# Altium footprint library PASSIVE_THD.PCBLIB: 248 footprints (part 7 of 16)
Each footprint in its own frame and in the unit in brackets; x right, y up, seen from the top. Pads: shape width x height; smd on the part's side, far side on the other; paste and mask are expansions set on the pad; w line width, h text height; cw(c..) or ccw(c..) is an arc to the next point about the centre after c.
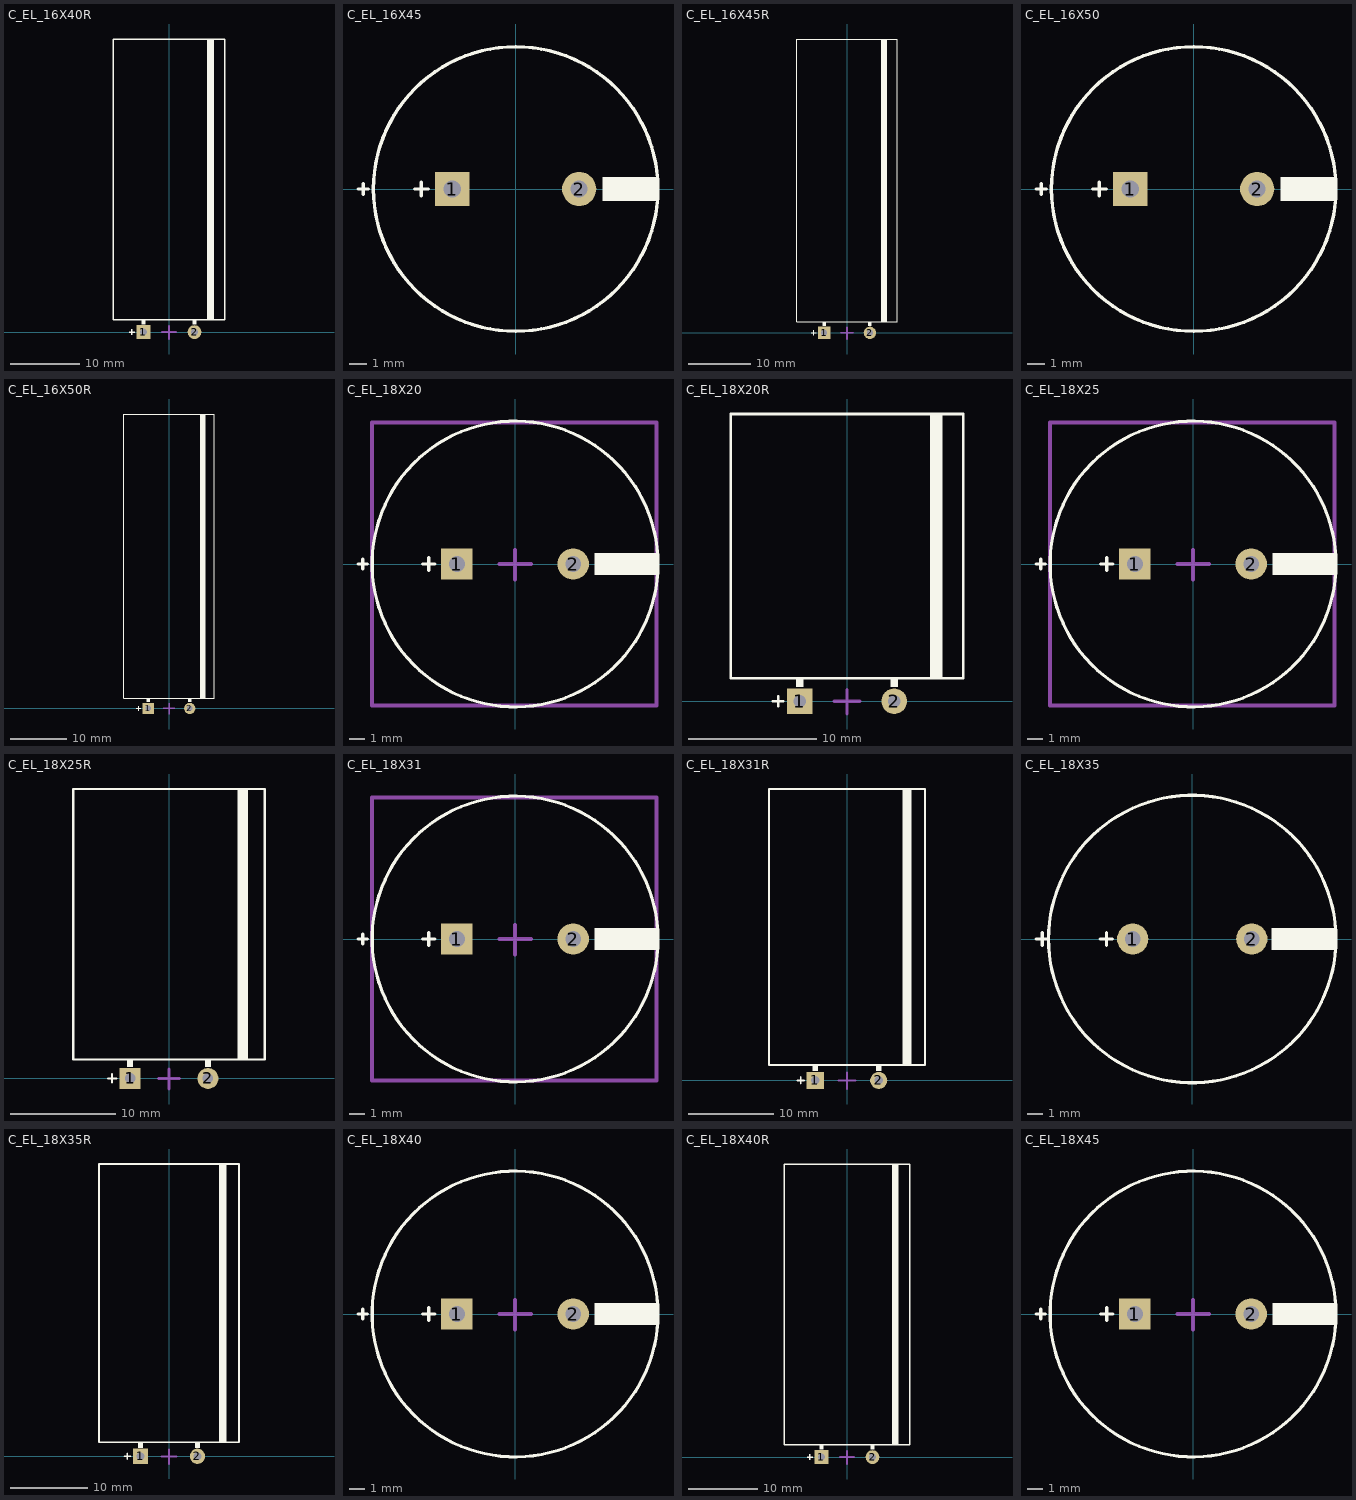
[diagram p6: the footprints below, top view; thin cyan lines are the x and y axes]

## C_EL_16X40R [mm] "Capacitor Electrolythic, D16X40H pitch: 7.4mm"
height 40
pads (2):
  rect 2x2 hole 1: 1(-3.7,0)
  round 2 hole 1: 2(3.7,0)
TopOverlay:
  rectangle: 5.5,1.8 6.5,42.5
  rectangle: -4,1.1 -3.4,1.8
  region: 4,1.8 3.4,1.8 3.4,1.1 4,1.1
  lines w0.2: -5.8,0 -5,0 ; -5.4,-0.4 -5.4,0.4 ; -8.1,1.8 8.1,1.8 8.1,42.5 -8.1,42.5 -8.1,1.8
Mechanical13:
  lines w0.254: -1,0 1,0 ; 0,-1 0,0.9
3D body "cap_el_horizontal_d16_h40_p7.5_w0.8.stp": height 16.08, standoff -3, extent -7.992,-0.4 7.999,42.41

## C_EL_16X45 [mm] "Capacitor Electrolythic, D16X45H pitch: 7.4mm"
height 26
pads (2):
  rect 2x2 hole 1: 1(-3.7,0)
  round 2 hole 1: 2(3.7,0)
TopOverlay:
  circle w0.2: c0,0 r8.3
  rectangle: 5.07,-0.7 8.3,0.7
  lines w0.2: -9.2,0 -8.6,0 ; -8.9,-0.3 -8.9,0.3 ; -5.9,0 -5.1,0 ; -5.5,-0.4 -5.5,0.4
3D body "cap_el_vertical_d16_h45_p7.5_w0.8.stp": height 45.01, standoff -3, extent -7.992,-7.999 7.999,7.999

## C_EL_16X45R [mm] "Capacitor Electrolythic, D16X45H pitch: 7.4mm"
height 40
pads (2):
  rect 2x2 hole 1: 1(-3.7,0)
  round 2 hole 1: 2(3.7,0)
TopOverlay:
  region: 4,1.8 3.4,1.8 3.4,1.1 4,1.1
  rectangle: -4,1.1 -3.4,1.8
  rectangle: 5.5,1.8 6.5,47.5
  lines w0.2: -5.8,0 -5,0 ; -5.4,-0.4 -5.4,0.4 ; -8.1,1.8 -8.1,47.5 8.1,47.5 8.1,1.8 -8.1,1.8
Mechanical13:
  lines w0.254: -1,0 1,0 ; 0,-1 0,0.9
3D body "cap_el_horizontal_d16_h45_p7.5_w0.8.stp": height 16.1, standoff -3, extent -7.992,-0.4 7.999,47.41

## C_EL_16X50 [mm] "Capacitor Electrolythic, D16X50H pitch: 7.4mm"
height 26
pads (2):
  rect 2x2 hole 1: 1(-3.7,0)
  round 2 hole 1: 2(3.7,0)
TopOverlay:
  circle w0.2: c0,0 r8.3
  rectangle: 5.07,-0.7 8.3,0.7
  lines w0.2: -9.2,0 -8.6,0 ; -8.9,-0.3 -8.9,0.3 ; -5.9,0 -5.1,0 ; -5.5,-0.4 -5.5,0.4
3D body "cap_el_vertical_d16_h50_p7.5_w0.8.stp": height 50.01, standoff -3, extent -7.99,-7.988 7.999,7.988

## C_EL_16X50R [mm] "Capacitor Electrolythic, D16X50H pitch: 7.4mm"
height 40
pads (2):
  rect 2x2 hole 1: 1(-3.7,0)
  round 2 hole 1: 2(3.7,0)
TopOverlay:
  rectangle: 5.5,1.8 6.5,52.5
  rectangle: -4,1.1 -3.4,1.8
  region: 4,1.8 3.4,1.8 3.4,1.1 4,1.1
  lines w0.2: -5.8,0 -5,0 ; -5.4,-0.4 -5.4,0.4 ; -8.1,1.8 8.1,1.8 8.1,52.5 -8.1,52.5 -8.1,1.8
Mechanical13:
  lines w0.254: -1,0 1,0 ; 0,-1 0,0.9
3D body "cap_el_horizontal_d16_h50_p7.5_w0.8.stp": height 16.09, standoff -3, extent -7.99,-0.4 7.999,52.41

## C_EL_18X20 [mm] "Capacitor Electrolythic, D18X20H pitch: 7.4mm"
height 36
pads (2):
  rect 2x2 hole 1: 1(-3.7,0)
  round 2 hole 1: 2(3.7,0)
TopOverlay:
  circle w0.2: c0,0 r9.1
  rectangle: 5.07,-0.7 9.1,0.7
  lines w0.2: -10,0 -9.4,0 ; -9.7,-0.3 -9.7,0.3 ; -5.9,0 -5.1,0 ; -5.5,-0.4 -5.5,0.4
Mechanical13:
  lines w0.254: -1,0 1,0 ; 0,-1 0,0.9 ; -9.1,-9 9,-9 9,9 -9.1,9 -9.1,-9
3D body "cap_el_vertical_d18_h20_p7.5_w0.8.stp": height 20.01, standoff -3, extent -8.99,-8.992 9.01,8.992

## C_EL_18X20R [mm] "Capacitor Electrolythic, D18X20H pitch: 7.4mm"
height 40
pads (2):
  rect 2x2 hole 1: 1(-3.7,0)
  round 2 hole 1: 2(3.7,0)
TopOverlay:
  region: 4,1.8 3.4,1.8 3.4,1.1 4,1.1
  rectangle: -4,1.1 -3.4,1.8
  rectangle: 6.5,1.8 7.5,22.5
  lines w0.2: -5.8,0 -5,0 ; -5.4,-0.4 -5.4,0.4 ; -9.1,1.8 -9.1,22.5 9.1,22.5 9.1,1.8 -9.1,1.8
Mechanical13:
  lines w0.254: -1,0 1,0 ; 0,-1 0,0.9
3D body "cap_el_horizontal_d18_h20_p7.5_w0.8.stp": height 18.09, standoff -3, extent -8.99,-0.4 9.01,22.41

## C_EL_18X25 [mm] "Capacitor Electrolythic, D18X25H pitch: 7.4mm"
height 36
pads (2):
  rect 2x2 hole 1: 1(-3.7,0)
  round 2 hole 1: 2(3.7,0)
TopOverlay:
  circle w0.2: c0,0 r9.1
  rectangle: 5.07,-0.7 9.1,0.7
  lines w0.2: -10,0 -9.4,0 ; -9.7,-0.3 -9.7,0.3 ; -5.9,0 -5.1,0 ; -5.5,-0.4 -5.5,0.4
Mechanical13:
  lines w0.254: -1,0 1,0 ; 0,-1 0,0.9 ; -9.1,-9 -9.1,9 9,9 9,-9 -9.1,-9
3D body "cap_el_vertical_d18_h25_p7.5_w0.8.stp": height 25.01, standoff -3, extent -8.991,-8.999 9.01,8.999

## C_EL_18X25R [mm] "Capacitor Electrolythic, D18X25H pitch: 7.4mm"
height 40
pads (2):
  rect 2x2 hole 1: 1(-3.7,0)
  round 2 hole 1: 2(3.7,0)
TopOverlay:
  rectangle: 6.5,1.8 7.5,27.5
  rectangle: -4,1.1 -3.4,1.8
  region: 4,1.8 3.4,1.8 3.4,1.1 4,1.1
  lines w0.2: -5.8,0 -5,0 ; -5.4,-0.4 -5.4,0.4 ; -9.1,1.8 9.1,1.8 9.1,27.5 -9.1,27.5 -9.1,1.8
Mechanical13:
  lines w0.254: -1,0 1,0 ; 0,-1 0,0.9
3D body "cap_el_horizontal_d18_h25_p7.5_w0.8.stp": height 18.1, standoff -3, extent -8.991,-0.4 9.01,27.41

## C_EL_18X31 [mm] "Capacitor Electrolythic, D18X31H pitch: 7.4mm"
height 36
pads (2):
  rect 2x2 hole 1: 1(-3.7,0)
  round 2 hole 1: 2(3.7,0)
TopOverlay:
  circle w0.2: c0,0 r9.1
  rectangle: 5.07,-0.7 9.1,0.7
  lines w0.2: -10,0 -9.4,0 ; -9.7,-0.3 -9.7,0.3 ; -5.9,0 -5.1,0 ; -5.5,-0.4 -5.5,0.4
Mechanical13:
  lines w0.254: -1,0 1,0 ; 0,-1 0,0.9 ; -9.1,-9 -9.1,9 9,9 9,-9 -9.1,-9
3D body "cap_el_vertical_d18_h31.5_p7.5_w0.8.stp": height 31.51, standoff -3, extent -9,-9 9.01,9

## C_EL_18X31R [mm] "Capacitor Electrolythic, D18X31H pitch: 7.4mm"
height 40
pads (2):
  rect 2x2 hole 1: 1(-3.7,0)
  round 2 hole 1: 2(3.7,0)
TopOverlay:
  region: 4,1.8 3.4,1.8 3.4,1.1 4,1.1
  rectangle: -4,1.1 -3.4,1.8
  rectangle: 6.5,1.8 7.5,34
  lines w0.2: -5.8,0 -5,0 ; -5.4,-0.4 -5.4,0.4 ; -9.1,1.8 -9.1,34 9.1,34 9.1,1.8 -9.1,1.8
Mechanical13:
  lines w0.254: -1,0 1,0 ; 0,-1 0,0.9
3D body "cap_el_horizontal_d18_h31.5_p7.5_w0.8.stp": height 18.1, standoff -3, extent -9,-0.4 9.01,33.91

## C_EL_18X35 [mm] "Cap Elec, D18.0X35.0H pitch: 7.6mm, RB.3/.7"
pads (2):
  round 2 hole 1: 1(-3.81,0) 2(3.81,0)
TopOverlay:
  circle w0.2: c0,0 r9.2
  rectangle: 5.07,-0.7 9.2,0.7
  lines w0.2: -10,0 -9.2,0 ; -9.6,-0.4 -9.6,0.4 ; -5.9,0 -5.1,0 ; -5.5,-0.4 -5.5,0.4
3D body "User Library-cap-3.step": height 35.05, standoff -3.6, extent -10.424,-10.425 10.473,10.413

## C_EL_18X35R [mm] "Capacitor Electrolythic, D18X35H pitch: 7.4mm"
height 40
pads (2):
  rect 2x2 hole 1: 1(-3.7,0)
  round 2 hole 1: 2(3.7,0)
TopOverlay:
  rectangle: 6.5,1.8 7.5,38
  rectangle: -4,1.1 -3.4,1.8
  region: 4,1.8 3.4,1.8 3.4,1.1 4,1.1
  lines w0.2: -5.8,0 -5,0 ; -5.4,-0.4 -5.4,0.4 ; -9.1,1.8 9.1,1.8 9.1,38 -9.1,38 -9.1,1.8
Mechanical13:
  lines w0.254: -1,0 1,0 ; 0,-1 0,0.9
3D body "cap_el_horizontal_d18_h35.5_p7.5_w0.8.stp": height 18.09, standoff -3, extent -8.99,-0.4 9.01,37.91

## C_EL_18X40 [mm] "Capacitor Electrolythic, D18X40H pitch: 7.4mm"
height 40
pads (2):
  rect 2x2 hole 1: 1(-3.7,0)
  round 2 hole 1: 2(3.7,0)
TopOverlay:
  circle w0.2: c0,0 r9.1
  rectangle: 5.07,-0.7 9.1,0.7
  lines w0.2: -10,0 -9.4,0 ; -9.7,-0.3 -9.7,0.3 ; -5.9,0 -5.1,0 ; -5.5,-0.4 -5.5,0.4
Mechanical13:
  lines w0.254: -1,0 1,0 ; 0,-1 0,0.9
3D body "cap_el_vertical_d18_h40_p7.5_w0.8.stp": height 40.01, standoff -3, extent -8.99,-9 9.01,9

## C_EL_18X40R [mm] "Capacitor Electrolythic, D18X40H pitch: 7.4mm"
height 40
pads (2):
  rect 2x2 hole 1: 1(-3.7,0)
  round 2 hole 1: 2(3.7,0)
TopOverlay:
  region: 4,1.8 3.4,1.8 3.4,1.1 4,1.1
  rectangle: -4,1.1 -3.4,1.8
  rectangle: 6.5,1.8 7.5,42.5
  lines w0.2: -5.8,0 -5,0 ; -5.4,-0.4 -5.4,0.4 ; -9.1,1.8 -9.1,42.5 9.1,42.5 9.1,1.8 -9.1,1.8
Mechanical13:
  lines w0.254: -1,0 1,0 ; 0,-1 0,0.9
3D body "cap_el_horizontal_d18_h40_p7.5_w0.8.stp": height 18.1, standoff -3, extent -8.99,-0.4 9.01,42.41

## C_EL_18X45 [mm] "Capacitor Electrolythic, D18X45H pitch: 7.4mm"
height 40
pads (2):
  rect 2x2 hole 1: 1(-3.7,0)
  round 2 hole 1: 2(3.7,0)
TopOverlay:
  circle w0.2: c0,0 r9.1
  rectangle: 5.07,-0.7 9.1,0.7
  lines w0.2: -10,0 -9.4,0 ; -9.7,-0.3 -9.7,0.3 ; -5.9,0 -5.1,0 ; -5.5,-0.4 -5.5,0.4
Mechanical13:
  lines w0.254: -1,0 1,0 ; 0,-1 0,0.9
3D body "cap_el_vertical_d18_h45_p7.5_w0.8.stp": height 45.01, standoff -3, extent -8.991,-8.98 8.997,8.982